# Altium integrated library Xilinx Spartan-6 FPGA.IntLib: 471 symbols (part 3 of 3)
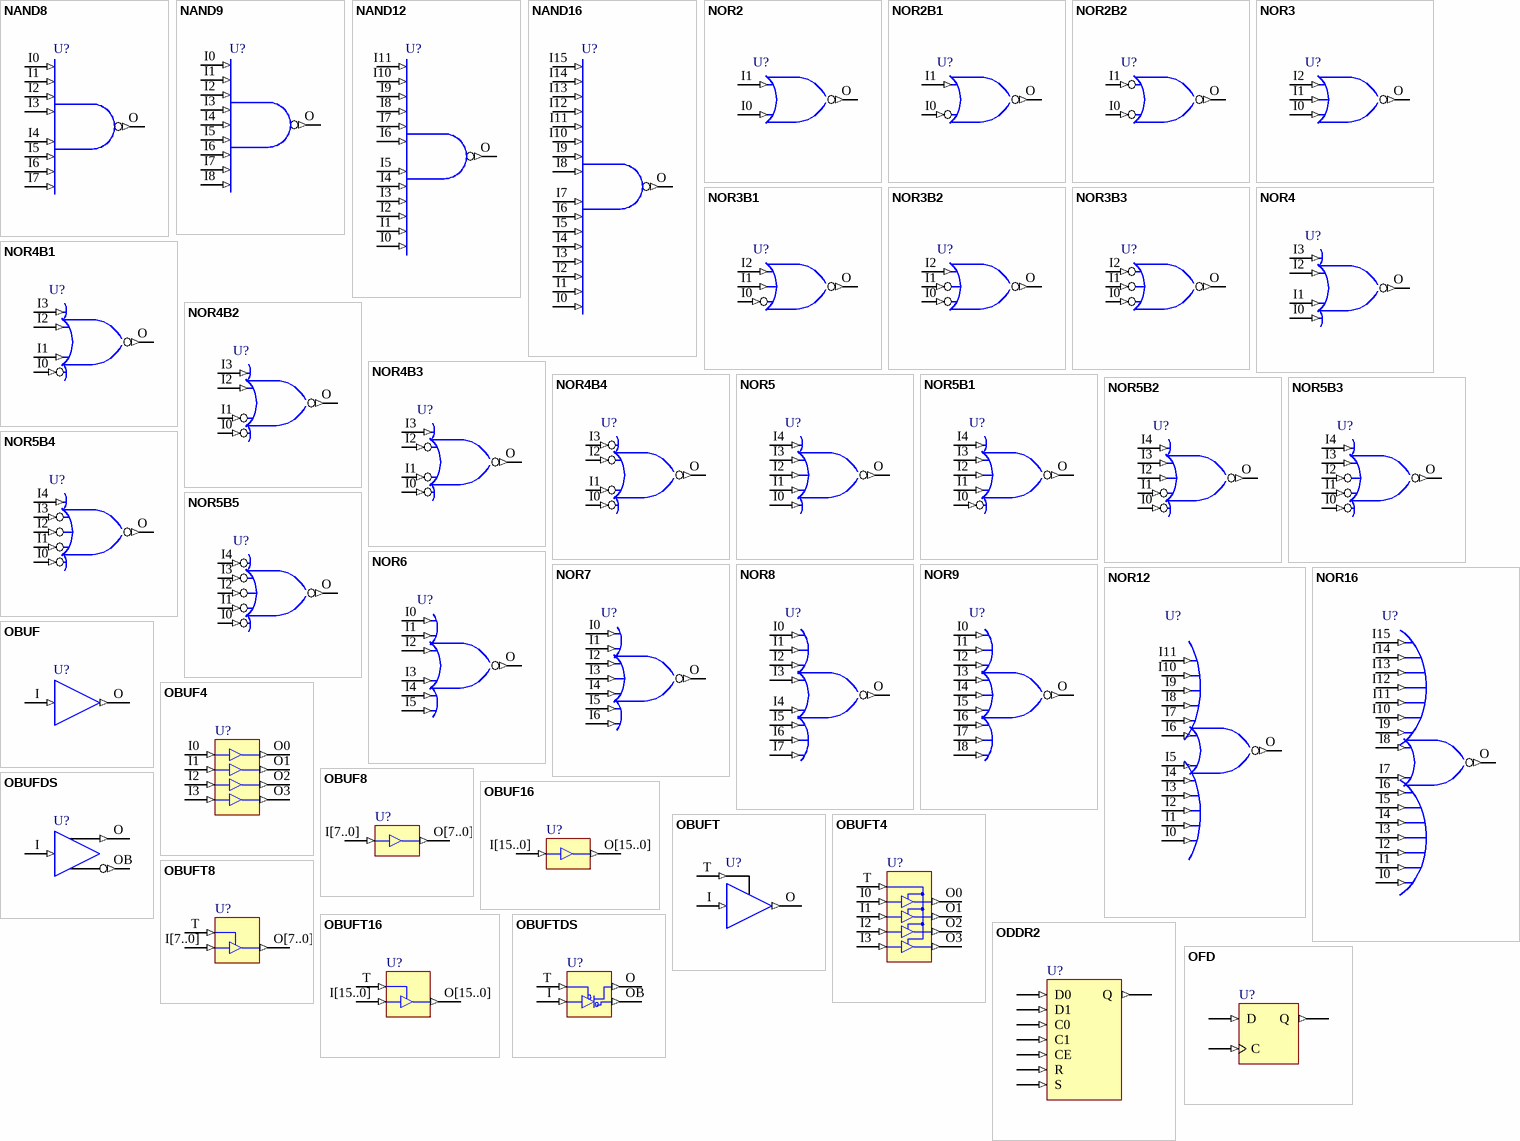
[diagram p14: symbols NAND8 to OFD]

## OBUF4
designator U?
Multiple-Output Buffers (using the LVTTL standard); FPGAVendor: Xilinx; Published: 17-Dec-2009; Publisher: Altium Limited; HelpURL: http://www.xilinx.com/support/documentation/sw_manuals/xilinx11/spartan6_scm.pdf
pins: I0 (in), I1 (in), I2 (in), I3 (in), O0 (out), O1 (out), O2 (out), O3 (out)

## OBUF8
designator U?
Multiple-Output Buffers (using the LVTTL standard); FPGAVendor: Xilinx; Published: 17-Dec-2009; Publisher: Altium Limited; HelpURL: http://www.xilinx.com/support/documentation/sw_manuals/xilinx11/spartan6_scm.pdf
pins: I[7..0] (in), O[7..0] (out)

## OBUF16
designator U?
Multiple-Output Buffers (using the LVTTL standard); FPGAVendor: Xilinx; Published: 17-Dec-2009; Publisher: Altium Limited; HelpURL: http://www.xilinx.com/support/documentation/sw_manuals/xilinx11/spartan6_scm.pdf
pins: I[15..0] (in), O[15..0] (out)

## OBUFDS
designator U?
Differential Signaling Output Buffer; FPGAVendor: Xilinx; Published: 17-Dec-2009; Publisher: Altium Limited; HelpURL: http://www.xilinx.com/support/documentation/sw_manuals/xilinx11/spartan6_scm.pdf
pins: I (in), O (out), OB (out)

## OBUFT
designator U?
Single 3-State Output Buffer with Active-Low Output Enable; FPGAVendor: Xilinx; Published: 17-Dec-2009; Publisher: Altium Limited; HelpURL: http://www.xilinx.com/support/documentation/sw_manuals/xilinx11/spartan6_scm.pdf
pins: I (in), O (out), T (in)

## OBUFT4
designator U?
Multiple 3-State Output Buffers with Active-Low Output Enable; FPGAVendor: Xilinx; Published: 17-Dec-2009; Publisher: Altium Limited; HelpURL: http://www.xilinx.com/support/documentation/sw_manuals/xilinx11/spartan6_scm.pdf
pins: I0 (in), I1 (in), I2 (in), I3 (in), O0 (out), O1 (out), O2 (out), O3 (out), T (in)

## OBUFT8
designator U?
Multiple 3-State Output Buffers with Active-Low Output Enable; FPGAVendor: Xilinx; Published: 17-Dec-2009; Publisher: Altium Limited; HelpURL: http://www.xilinx.com/support/documentation/sw_manuals/xilinx11/spartan6_scm.pdf
pins: I[7..0] (in), O[7..0] (out), T (in)

## OBUFT16
designator U?
Multiple 3-State Output Buffers with Active-Low Output Enable; FPGAVendor: Xilinx; Published: 17-Dec-2009; Publisher: Altium Limited; HelpURL: http://www.xilinx.com/support/documentation/sw_manuals/xilinx11/spartan6_scm.pdf
pins: I[15..0] (in), O[15..0] (out), T (in)

## OBUFTDS
designator U?
3-State Differential Signaling Output Buffer with Active Low Output Enable; FPGAVendor: Xilinx; Published: 17-Dec-2009; Publisher: Altium Limited; HelpURL: http://www.xilinx.com/support/documentation/sw_manuals/xilinx11/spartan6_scm.pdf
pins: I (in), O (out), OB (out), T (in)

## ODDR2
designator U?
Dual Data Rate Output D Flip-Flop with Optional Data Alignment, Clock Enable and Programmable Synchronous or Asynchronous Set/Reset; FPGAVendor: Xilinx; Published: 17-Dec-2009; Publisher: Altium Limited; HelpURL: http://www.xilinx.com/support/documentation/sw_manuals/xilinx11/spartan6_scm.pdf
pins: C0 (in), C1 (in), CE (in), D0 (in), D1 (in), Q (out), R (in), S (in)

## OFD
designator U?
Single-Output D Flip-Flop; FPGAVendor: Xilinx; Published: 17-Dec-2009; Publisher: Altium Limited; HelpURL: http://www.xilinx.com/support/documentation/sw_manuals/xilinx11/spartan6_scm.pdf
pins: C (in), D (in), Q (out)

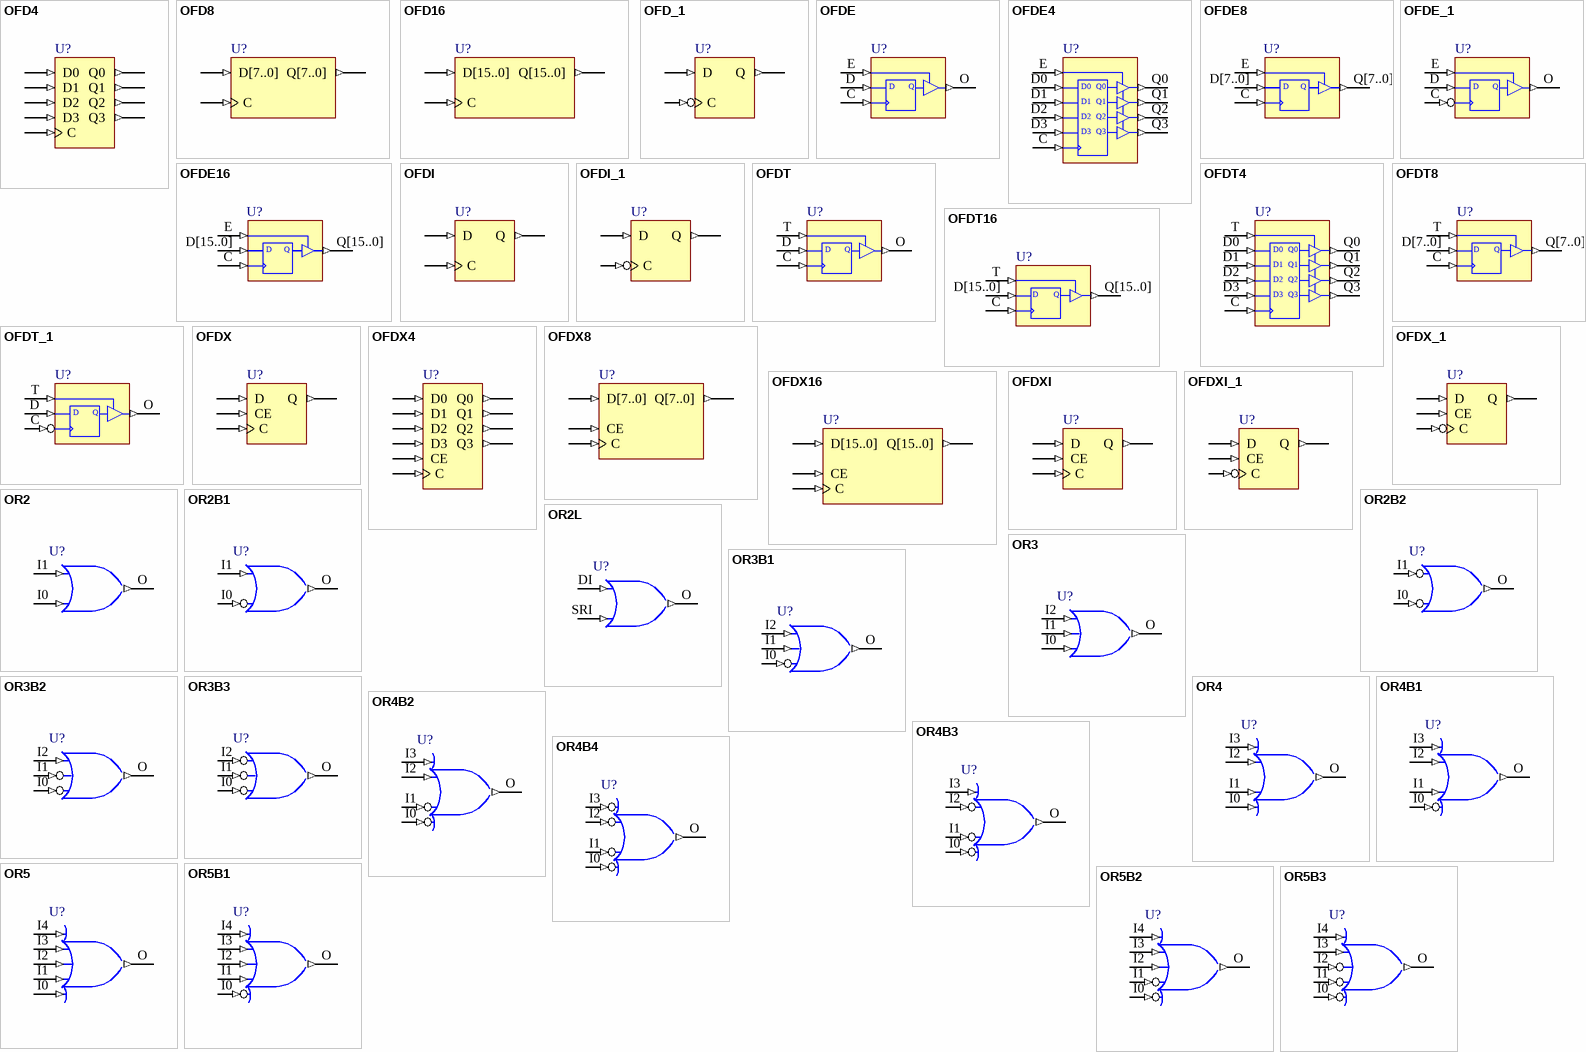
[diagram p9: symbols OFD4 to OR5B3]

## OFD4
designator U?
Multiple-Output D Flip-Flop; FPGAVendor: Xilinx; Published: 17-Dec-2009; Publisher: Altium Limited; HelpURL: http://www.xilinx.com/support/documentation/sw_manuals/xilinx11/spartan6_scm.pdf
pins: C (in), D0 (in), D1 (in), D2 (in), D3 (in), Q0 (out), Q1 (out), Q2 (out), Q3 (out)

## OFD8
designator U?
Multiple-Output D Flip-Flop; FPGAVendor: Xilinx; Published: 17-Dec-2009; Publisher: Altium Limited; HelpURL: http://www.xilinx.com/support/documentation/sw_manuals/xilinx11/spartan6_scm.pdf
pins: C (in), D[7..0] (in), Q[7..0] (out)

## OFD16
designator U?
Multiple-Output D Flip-Flop; FPGAVendor: Xilinx; Published: 17-Dec-2009; Publisher: Altium Limited; HelpURL: http://www.xilinx.com/support/documentation/sw_manuals/xilinx11/spartan6_scm.pdf
pins: C (in), D[15..0] (in), Q[15..0] (out)

## OFD_1
designator U?
Output D Flip-Flop with Inverted Clock; FPGAVendor: Xilinx; Published: 17-Dec-2009; Publisher: Altium Limited; HelpURL: http://www.xilinx.com/support/documentation/sw_manuals/xilinx11/spartan6_scm.pdf
pins: C (in), D (in), Q (out)

## OFDE
designator U?
D Flip-Flop with Active-High Enable Output Buffer; FPGAVendor: Xilinx; Published: 17-Dec-2009; Publisher: Altium Limited; HelpURL: http://www.xilinx.com/support/documentation/sw_manuals/xilinx11/spartan6_scm.pdf
pins: C (in), D (in), E (in), O (out)
text: Q

## OFDE4
designator U?
D Flip-Flops with Active-High Enable Output Buffers; FPGAVendor: Xilinx; Published: 17-Dec-2009; Publisher: Altium Limited; HelpURL: http://www.xilinx.com/support/documentation/sw_manuals/xilinx11/spartan6_scm.pdf
pins: C (in), D0 (in), D1 (in), D2 (in), D3 (in), E (in), Q0 (out), Q1 (out), Q2 (out), Q3 (out)

## OFDE8
designator U?
D Flip-Flops with Active-High Enable Output Buffers; FPGAVendor: Xilinx; Published: 17-Dec-2009; Publisher: Altium Limited; HelpURL: http://www.xilinx.com/support/documentation/sw_manuals/xilinx11/spartan6_scm.pdf
pins: C (in), D[7..0] (in), E (in), Q[7..0] (out)
text: D; Q

## OFDE16
designator U?
D Flip-Flops with Active-High Enable Output Buffers; FPGAVendor: Xilinx; Published: 17-Dec-2009; Publisher: Altium Limited; HelpURL: http://www.xilinx.com/support/documentation/sw_manuals/xilinx11/spartan6_scm.pdf
pins: C (in), D[15..0] (in), E (in), Q[15..0] (out)
text: D; Q

## OFDE_1
designator U?
D Flip-Flop with Active-High Enable Output Buffer and Inverted Clock; FPGAVendor: Xilinx; Published: 17-Dec-2009; Publisher: Altium Limited; HelpURL: http://www.xilinx.com/support/documentation/sw_manuals/xilinx11/spartan6_scm.pdf
pins: C (in), D (in), E (in), O (out)
text: Q

## OFDI
designator U?
Output D Flip-Flop (Asynchronous Preset); FPGAVendor: Xilinx; Published: 17-Dec-2009; Publisher: Altium Limited; HelpURL: http://www.xilinx.com/support/documentation/sw_manuals/xilinx11/spartan6_scm.pdf
pins: C (in), D (in), Q (out)

## OFDI_1
designator U?
Output D Flip-Flop with Inverted Clock (Asynchronous Preset); FPGAVendor: Xilinx; Published: 17-Dec-2009; Publisher: Altium Limited; HelpURL: http://www.xilinx.com/support/documentation/sw_manuals/xilinx11/spartan6_scm.pdf
pins: C (in), D (in), Q (out)

## OFDT
designator U?
Single D Flip-Flop with Active-Low 3-State Output Enable Buffer; FPGAVendor: Xilinx; Published: 17-Dec-2009; Publisher: Altium Limited; HelpURL: http://www.xilinx.com/support/documentation/sw_manuals/xilinx11/spartan6_scm.pdf
pins: C (in), D (in), O (out), T (in)
text: Q

## OFDT4
designator U?
Multiple D Flip-Flops with Active-Low 3-State Output Enable Buffers; FPGAVendor: Xilinx; Published: 17-Dec-2009; Publisher: Altium Limited; HelpURL: http://www.xilinx.com/support/documentation/sw_manuals/xilinx11/spartan6_scm.pdf
pins: C (in), D0 (in), D1 (in), D2 (in), D3 (in), Q0 (out), Q1 (out), Q2 (out), Q3 (out), T (in)

## OFDT8
designator U?
Multiple D Flip-Flops with Active-Low 3-State Output Enable Buffers; FPGAVendor: Xilinx; Published: 17-Dec-2009; Publisher: Altium Limited; HelpURL: http://www.xilinx.com/support/documentation/sw_manuals/xilinx11/spartan6_scm.pdf
pins: C (in), D[7..0] (in), Q[7..0] (out), T (in)
text: D; Q

## OFDT16
designator U?
Multiple D Flip-Flops with Active-Low 3-State Output Enable Buffers; FPGAVendor: Xilinx; Published: 17-Dec-2009; Publisher: Altium Limited; HelpURL: http://www.xilinx.com/support/documentation/sw_manuals/xilinx11/spartan6_scm.pdf
pins: C (in), D[15..0] (in), Q[15..0] (out), T (in)
text: D; Q

## OFDT_1
designator U?
D Flip-Flop with Active-Low 3-State Output Buffer and Inverted Clock; FPGAVendor: Xilinx; Published: 17-Dec-2009; Publisher: Altium Limited; HelpURL: http://www.xilinx.com/support/documentation/sw_manuals/xilinx11/spartan6_scm.pdf
pins: C (in), D (in), O (out), T (in)
text: Q

## OFDX
designator U?
Single-Output D Flip-Flop with Clock Enable; FPGAVendor: Xilinx; Published: 17-Dec-2009; Publisher: Altium Limited; HelpURL: http://www.xilinx.com/support/documentation/sw_manuals/xilinx11/spartan6_scm.pdf
pins: C (in), CE (in), D (in), Q (out)

## OFDX4
designator U?
Multiple-Output D Flip-Flops with Clock Enable; FPGAVendor: Xilinx; Published: 17-Dec-2009; Publisher: Altium Limited; HelpURL: http://www.xilinx.com/support/documentation/sw_manuals/xilinx11/spartan6_scm.pdf
pins: C (in), CE (in), D0 (in), D1 (in), D2 (in), D3 (in), Q0 (out), Q1 (out), Q2 (out), Q3 (out)

## OFDX8
designator U?
Multiple-Output D Flip-Flops with Clock Enable; FPGAVendor: Xilinx; Published: 17-Dec-2009; Publisher: Altium Limited; HelpURL: http://www.xilinx.com/support/documentation/sw_manuals/xilinx11/spartan6_scm.pdf
pins: C (in), CE (in), D[7..0] (in), Q[7..0] (out)

## OFDX16
designator U?
Multiple-Output D Flip-Flops with Clock Enable; FPGAVendor: Xilinx; Published: 17-Dec-2009; Publisher: Altium Limited; HelpURL: http://www.xilinx.com/support/documentation/sw_manuals/xilinx11/spartan6_scm.pdf
pins: C (in), CE (in), D[15..0] (in), Q[15..0] (out)

## OFDX_1
designator U?
Output D Flip-Flop with Inverted Clock and Clock Enable; FPGAVendor: Xilinx; Published: 17-Dec-2009; Publisher: Altium Limited; HelpURL: http://www.xilinx.com/support/documentation/sw_manuals/xilinx11/spartan6_scm.pdf
pins: C (in), CE (in), D (in), Q (out)

## OFDXI
designator U?
Output D Flip-Flop with Clock Enable (Asynchronous Preset); FPGAVendor: Xilinx; Published: 17-Dec-2009; Publisher: Altium Limited; HelpURL: http://www.xilinx.com/support/documentation/sw_manuals/xilinx11/spartan6_scm.pdf
pins: C (in), CE (in), D (in), Q (out)

## OFDXI_1
designator U?
Output D Flip-Flop with Inverted Clock and Clock Enable (Asynchronous Preset); FPGAVendor: Xilinx; Published: 17-Dec-2009; Publisher: Altium Limited; HelpURL: http://www.xilinx.com/support/documentation/sw_manuals/xilinx11/spartan6_scm.pdf
pins: C (in), CE (in), D (in), Q (out)

## OR2
designator U?
2-Input OR Gate; FPGAVendor: Xilinx; Published: 17-Dec-2009; Publisher: Altium Limited; HelpURL: http://www.xilinx.com/support/documentation/sw_manuals/xilinx11/spartan6_scm.pdf
pins: I0 (in), I1 (in), O (out)

## OR2B1
designator U?
2-Input OR Gate with One Inverted Input; FPGAVendor: Xilinx; Published: 17-Dec-2009; Publisher: Altium Limited; HelpURL: http://www.xilinx.com/support/documentation/sw_manuals/xilinx11/spartan6_scm.pdf
pins: I0 (in), I1 (in), O (out)

## OR2B2
designator U?
2-Input OR Gate with Two Inverted Inputs; FPGAVendor: Xilinx; Published: 17-Dec-2009; Publisher: Altium Limited; HelpURL: http://www.xilinx.com/support/documentation/sw_manuals/xilinx11/spartan6_scm.pdf
pins: I0 (in), I1 (in), O (out)

## OR2L
designator U?
Two input OR gate implemented in place of a Slice Latch; FPGAVendor: Xilinx; Published: 17-Dec-2009; Publisher: Altium Limited; HelpURL: http://www.xilinx.com/support/documentation/sw_manuals/xilinx11/spartan6_scm.pdf
pins: DI (in), O (out), SRI (in)

## OR3
designator U?
3-Input OR Gate; FPGAVendor: Xilinx; Published: 17-Dec-2009; Publisher: Altium Limited; HelpURL: http://www.xilinx.com/support/documentation/sw_manuals/xilinx11/spartan6_scm.pdf
pins: I0 (in), I1 (in), I2 (in), O (out)

## OR3B1
designator U?
3-Input OR Gate with One Inverted Input; FPGAVendor: Xilinx; Published: 17-Dec-2009; Publisher: Altium Limited; HelpURL: http://www.xilinx.com/support/documentation/sw_manuals/xilinx11/spartan6_scm.pdf
pins: I0 (in), I1 (in), I2 (in), O (out)

## OR3B2
designator U?
3-Input OR Gate with Two Inverted Inputs; FPGAVendor: Xilinx; Published: 17-Dec-2009; Publisher: Altium Limited; HelpURL: http://www.xilinx.com/support/documentation/sw_manuals/xilinx11/spartan6_scm.pdf
pins: I0 (in), I1 (in), I2 (in), O (out)

## OR3B3
designator U?
3-Input OR Gate with Three Inverted Inputs; FPGAVendor: Xilinx; Published: 17-Dec-2009; Publisher: Altium Limited; HelpURL: http://www.xilinx.com/support/documentation/sw_manuals/xilinx11/spartan6_scm.pdf
pins: I0 (in), I1 (in), I2 (in), O (out)

## OR4
designator U?
4-Input OR Gate; FPGAVendor: Xilinx; Published: 17-Dec-2009; Publisher: Altium Limited; HelpURL: http://www.xilinx.com/support/documentation/sw_manuals/xilinx11/spartan6_scm.pdf
pins: I0 (in), I1 (in), I2 (in), I3 (in), O (out)

## OR4B1
designator U?
4-Input OR Gate with One Inverted Input; FPGAVendor: Xilinx; Published: 17-Dec-2009; Publisher: Altium Limited; HelpURL: http://www.xilinx.com/support/documentation/sw_manuals/xilinx11/spartan6_scm.pdf
pins: I0 (in), I1 (in), I2 (in), I3 (in), O (out)

## OR4B2
designator U?
4-Input OR Gate with Two Inverted Inputs; FPGAVendor: Xilinx; Published: 17-Dec-2009; Publisher: Altium Limited; HelpURL: http://www.xilinx.com/support/documentation/sw_manuals/xilinx11/spartan6_scm.pdf
pins: I0 (in), I1 (in), I2 (in), I3 (in), O (out)

## OR4B3
designator U?
4-Input OR Gate with Three Inverted Inputs; FPGAVendor: Xilinx; Published: 17-Dec-2009; Publisher: Altium Limited; HelpURL: http://www.xilinx.com/support/documentation/sw_manuals/xilinx11/spartan6_scm.pdf
pins: I0 (in), I1 (in), I2 (in), I3 (in), O (out)

## OR4B4
designator U?
4-Input OR Gate with Four Inverted Inputs; FPGAVendor: Xilinx; Published: 17-Dec-2009; Publisher: Altium Limited; HelpURL: http://www.xilinx.com/support/documentation/sw_manuals/xilinx11/spartan6_scm.pdf
pins: I0 (in), I1 (in), I2 (in), I3 (in), O (out)

## OR5
designator U?
5-Input OR Gate; FPGAVendor: Xilinx; Published: 17-Dec-2009; Publisher: Altium Limited; HelpURL: http://www.xilinx.com/support/documentation/sw_manuals/xilinx11/spartan6_scm.pdf
pins: I0 (in), I1 (in), I2 (in), I3 (in), I4 (in), O (out)

## OR5B1
designator U?
5-Input OR Gate with One Inverted Input; FPGAVendor: Xilinx; Published: 17-Dec-2009; Publisher: Altium Limited; HelpURL: http://www.xilinx.com/support/documentation/sw_manuals/xilinx11/spartan6_scm.pdf
pins: I0 (in), I1 (in), I2 (in), I3 (in), I4 (in), O (out)

## OR5B2
designator U?
5-Input OR Gate with Two Inverted Inputs; FPGAVendor: Xilinx; Published: 17-Dec-2009; Publisher: Altium Limited; HelpURL: http://www.xilinx.com/support/documentation/sw_manuals/xilinx11/spartan6_scm.pdf
pins: I0 (in), I1 (in), I2 (in), I3 (in), I4 (in), O (out)

## OR5B3
designator U?
5-Input OR Gate with Three Inverted Inputs; FPGAVendor: Xilinx; Published: 17-Dec-2009; Publisher: Altium Limited; HelpURL: http://www.xilinx.com/support/documentation/sw_manuals/xilinx11/spartan6_scm.pdf
pins: I0 (in), I1 (in), I2 (in), I3 (in), I4 (in), O (out)

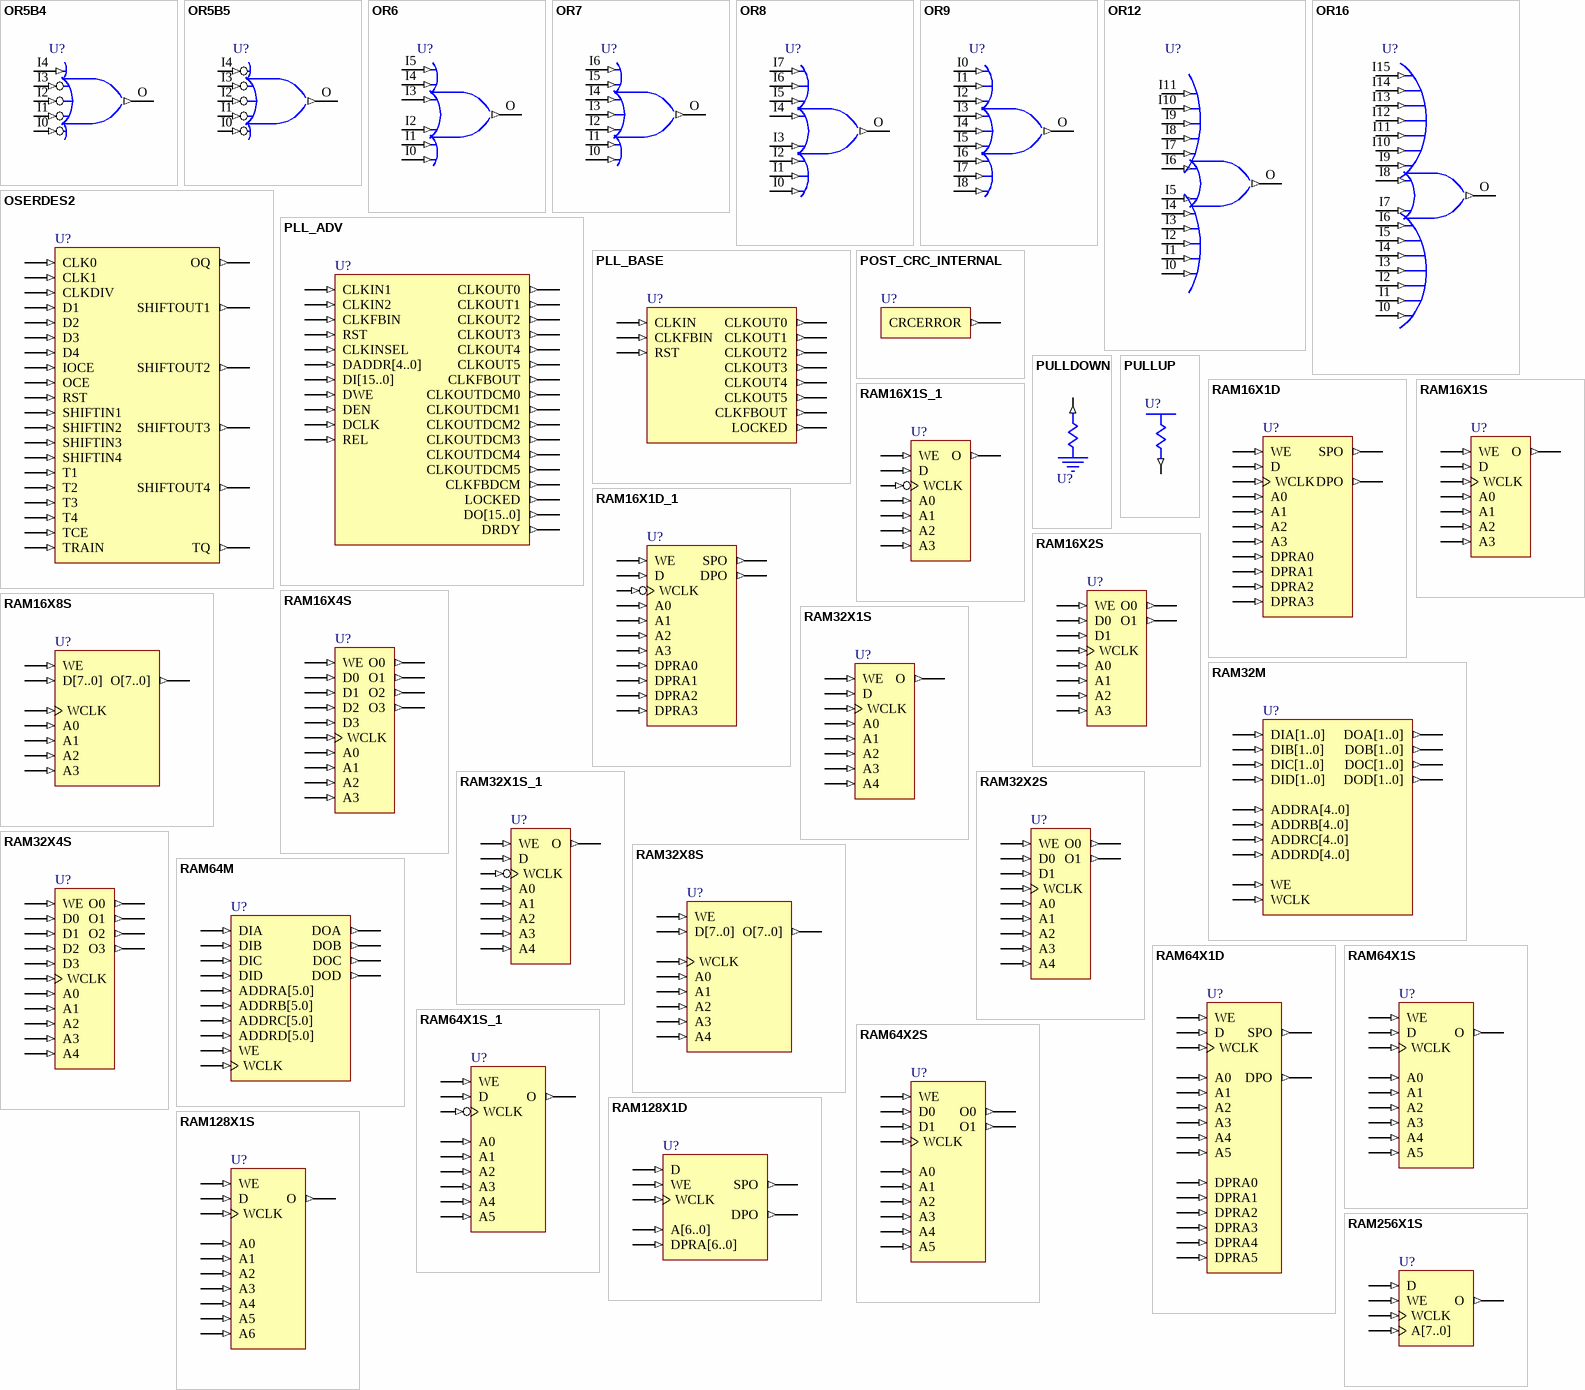
[diagram p10: symbols OR5B4 to RAM256X1S]

## OR5B4
designator U?
5-Input OR Gate with Four Inverted Inputs; FPGAVendor: Xilinx; Published: 17-Dec-2009; Publisher: Altium Limited; HelpURL: http://www.xilinx.com/support/documentation/sw_manuals/xilinx11/spartan6_scm.pdf
pins: I0 (in), I1 (in), I2 (in), I3 (in), I4 (in), O (out)

## OR5B5
designator U?
5-Input OR Gate with Five Inverted Inputs; FPGAVendor: Xilinx; Published: 17-Dec-2009; Publisher: Altium Limited; HelpURL: http://www.xilinx.com/support/documentation/sw_manuals/xilinx11/spartan6_scm.pdf
pins: I0 (in), I1 (in), I2 (in), I3 (in), I4 (in), O (out)

## OR6
designator U?
6-Input OR Gate; FPGAVendor: Xilinx; Published: 17-Dec-2009; Publisher: Altium Limited; HelpURL: http://www.xilinx.com/support/documentation/sw_manuals/xilinx11/spartan6_scm.pdf
pins: I0 (in), I1 (in), I2 (in), I3 (in), I4 (in), I5 (in), O (out)

## OR7
designator U?
7-Input OR Gate; FPGAVendor: Xilinx; Published: 17-Dec-2009; Publisher: Altium Limited; HelpURL: http://www.xilinx.com/support/documentation/sw_manuals/xilinx11/spartan6_scm.pdf
pins: I0 (in), I1 (in), I2 (in), I3 (in), I4 (in), I5 (in), I6 (in), O (out)

## OR8
designator U?
8-Input OR Gate; FPGAVendor: Xilinx; Published: 17-Dec-2009; Publisher: Altium Limited; HelpURL: http://www.xilinx.com/support/documentation/sw_manuals/xilinx11/spartan6_scm.pdf
pins: I0 (in), I1 (in), I2 (in), I3 (in), I4 (in), I5 (in), I6 (in), I7 (in), O (out)

## OR9
designator U?
9-Input OR Gate; FPGAVendor: Xilinx; Published: 17-Dec-2009; Publisher: Altium Limited; HelpURL: http://www.xilinx.com/support/documentation/sw_manuals/xilinx11/spartan6_scm.pdf
pins: I0 (in), I1 (in), I2 (in), I3 (in), I4 (in), I5 (in), I6 (in), I7 (in), I8 (in), O (out)

## OR12
designator U?
12-Input OR Gate; FPGAVendor: Xilinx; Published: 17-Dec-2009; Publisher: Altium Limited; HelpURL: http://www.xilinx.com/support/documentation/sw_manuals/xilinx11/spartan6_scm.pdf
pins: I0 (in), I1 (in), I2 (in), I3 (in), I4 (in), I5 (in), I6 (in), I7 (in), I8 (in), I9 (in), I10 (in), I11 (in), O (out)

## OR16
designator U?
16-Input OR Gate; FPGAVendor: Xilinx; Published: 17-Dec-2009; Publisher: Altium Limited; HelpURL: http://www.xilinx.com/support/documentation/sw_manuals/xilinx11/spartan6_scm.pdf
pins: I0 (in), I1 (in), I2 (in), I3 (in), I4 (in), I5 (in), I6 (in), I7 (in), I8 (in), I9 (in), I10 (in), I11 (in), I12 (in), I13 (in), I14 (in), I15 (in), O (out)

## OSERDES2
designator U?
Dedicated IOB Output Serializer; FPGAVendor: Xilinx; Published: 17-Dec-2009; Publisher: Altium Limited; HelpURL: http://www.xilinx.com/support/documentation/sw_manuals/xilinx11/spartan6_scm.pdf
pins: CLK0 (in), CLK1 (in), CLKDIV (in), D1 (in), D2 (in), D3 (in), D4 (in), IOCE (in), OCE (in), OQ (out), RST (in), SHIFTIN1 (in), SHIFTIN2 (in), SHIFTIN3 (in), SHIFTIN4 (in), SHIFTOUT1 (out), SHIFTOUT2 (out), SHIFTOUT3 (out), SHIFTOUT4 (out), T1 (in), T2 (in), T3 (in), T4 (in), TCE (in), TQ (out), TRAIN (in)

## PLL_ADV
designator U?
Advanced Phase Locked Loop Clock Circuit; FPGAVendor: Xilinx; Published: 17-Dec-2009; Publisher: Altium Limited; HelpURL: http://www.xilinx.com/support/documentation/sw_manuals/xilinx11/spartan6_scm.pdf
pins: CLKFBDCM (out), CLKFBIN (in), CLKFBOUT (out), CLKIN1 (in), CLKIN2 (in), CLKINSEL (in), CLKOUT0 (out), CLKOUT1 (out), CLKOUT2 (out), CLKOUT3 (out), CLKOUT4 (out), CLKOUT5 (out), CLKOUTDCM0 (out), CLKOUTDCM1 (out), CLKOUTDCM2 (out), CLKOUTDCM3 (out), CLKOUTDCM4 (out), CLKOUTDCM5 (out), DADDR[4..0] (in), DCLK (in), DEN (in), DI[15..0] (in), DO[15..0] (out), DRDY (out), DWE (in), LOCKED (out), REL (in), RST (in)

## PLL_BASE
designator U?
Basic Phase Locked Loop Clock Circuit; FPGAVendor: Xilinx; Published: 17-Dec-2009; Publisher: Altium Limited; HelpURL: http://www.xilinx.com/support/documentation/sw_manuals/xilinx11/spartan6_scm.pdf
pins: CLKFBIN (in), CLKFBOUT (out), CLKIN (in), CLKOUT0 (out), CLKOUT1 (out), CLKOUT2 (out), CLKOUT3 (out), CLKOUT4 (out), CLKOUT5 (out), LOCKED (out), RST (in)

## POST_CRC_INTERNAL
designator U?
Post-configuration CRC error detection; FPGAVendor: Xilinx; Published: 17-Dec-2009; Publisher: Altium Limited; HelpURL: http://www.xilinx.com/support/documentation/sw_manuals/xilinx11/spartan6_scm.pdf
pins: CRCERROR (out)

## PULLDOWN
designator U?
Resistor to GND for Input Pads; FPGAVendor: Xilinx; Published: 17-Dec-2009; Publisher: Altium Limited; HelpURL: http://www.xilinx.com/support/documentation/sw_manuals/xilinx11/spartan6_scm.pdf
pins: O (out)

## PULLUP
designator U?
Resistor to VCC for Input PADs, Open-Drain, and 3-State Outputs; FPGAVendor: Xilinx; Published: 17-Dec-2009; Publisher: Altium Limited; HelpURL: http://www.xilinx.com/support/documentation/sw_manuals/xilinx11/spartan6_scm.pdf
pins: O (out)

## RAM16X1D
designator U?
16-Deep by 1-Wide Static Dual Port Synchronous RAM; FPGAVendor: Xilinx; Published: 17-Dec-2009; Publisher: Altium Limited; HelpURL: http://www.xilinx.com/support/documentation/sw_manuals/xilinx11/spartan6_scm.pdf
pins: A0 (in), A1 (in), A2 (in), A3 (in), D (in), DPO (out), DPRA0 (in), DPRA1 (in), DPRA2 (in), DPRA3 (in), SPO (out), WCLK (in), WE (in)

## RAM16X1D_1
designator U?
16-Deep by 1-Wide Static Dual Port Synchronous RAM with Negative-Edge Clock; FPGAVendor: Xilinx; Published: 17-Dec-2009; Publisher: Altium Limited; HelpURL: http://www.xilinx.com/support/documentation/sw_manuals/xilinx11/spartan6_scm.pdf
pins: A0 (in), A1 (in), A2 (in), A3 (in), D (in), DPO (out), DPRA0 (in), DPRA1 (in), DPRA2 (in), DPRA3 (in), SPO (out), WCLK (in), WE (in)

## RAM16X1S
designator U?
16-Deep by 1-Wide Static Synchronous RAM; FPGAVendor: Xilinx; Published: 17-Dec-2009; Publisher: Altium Limited; HelpURL: http://www.xilinx.com/support/documentation/sw_manuals/xilinx11/spartan6_scm.pdf
pins: A0 (in), A1 (in), A2 (in), A3 (in), D (in), O (out), WCLK (in), WE (in)

## RAM16X1S_1
designator U?
16-Deep by 1-Wide Static Synchronous RAM with Negative-Edge Clock; FPGAVendor: Xilinx; Published: 17-Dec-2009; Publisher: Altium Limited; HelpURL: http://www.xilinx.com/support/documentation/sw_manuals/xilinx11/spartan6_scm.pdf
pins: A0 (in), A1 (in), A2 (in), A3 (in), D (in), O (out), WCLK (in), WE (in)

## RAM16X2S
designator U?
16-Deep by 2-Wide Static Synchronous RAM; FPGAVendor: Xilinx; Published: 17-Dec-2009; Publisher: Altium Limited; HelpURL: http://www.xilinx.com/support/documentation/sw_manuals/xilinx11/spartan6_scm.pdf
pins: A0 (in), A1 (in), A2 (in), A3 (in), D0 (in), D1 (in), O0 (out), O1 (out), WCLK (in), WE (in)

## RAM16X4S
designator U?
16-Deep by 4-Wide Static Synchronous RAM; FPGAVendor: Xilinx; Published: 17-Dec-2009; Publisher: Altium Limited; HelpURL: http://www.xilinx.com/support/documentation/sw_manuals/xilinx11/spartan6_scm.pdf
pins: A0 (in), A1 (in), A2 (in), A3 (in), D0 (in), D1 (in), D2 (in), D3 (in), O0 (out), O1 (out), O2 (out), O3 (out), WCLK (in), WE (in)

## RAM16X8S
designator U?
16-Deep by 8-Wide Static Synchronous RAM; FPGAVendor: Xilinx; Published: 17-Dec-2009; Publisher: Altium Limited; HelpURL: http://www.xilinx.com/support/documentation/sw_manuals/xilinx11/spartan6_scm.pdf
pins: A0 (in), A1 (in), A2 (in), A3 (in), D[7..0] (in), O[7..0] (out), WCLK (in), WE (in)

## RAM32M
designator U?
32-Deep by 8-bit Wide Multi Port Random Access Memory (Select RAM); FPGAVendor: Xilinx; Published: 17-Dec-2009; Publisher: Altium Limited; HelpURL: http://www.xilinx.com/support/documentation/sw_manuals/xilinx11/spartan6_scm.pdf
pins: ADDRA[4..0] (in), ADDRB[4..0] (in), ADDRC[4..0] (in), ADDRD[4..0] (in), DIA[1..0] (in), DIB[1..0] (in), DIC[1..0] (in), DID[1..0] (in), DOA[1..0] (out), DOB[1..0] (out), DOC[1..0] (out), DOD[1..0] (out), WCLK (in), WE (in)

## RAM32X1S
designator U?
32-Deep by 1-Wide Static Synchronous RAM; FPGAVendor: Xilinx; Published: 17-Dec-2009; Publisher: Altium Limited; HelpURL: http://www.xilinx.com/support/documentation/sw_manuals/xilinx11/spartan6_scm.pdf
pins: A0 (in), A1 (in), A2 (in), A3 (in), A4 (in), D (in), O (out), WCLK (in), WE (in)

## RAM32X1S_1
designator U?
32-Deep by 1-Wide Static Synchronous RAM with Negative-Edge Clock; FPGAVendor: Xilinx; Published: 17-Dec-2009; Publisher: Altium Limited; HelpURL: http://www.xilinx.com/support/documentation/sw_manuals/xilinx11/spartan6_scm.pdf
pins: A0 (in), A1 (in), A2 (in), A3 (in), A4 (in), D (in), O (out), WCLK (in), WE (in)

## RAM32X2S
designator U?
32-Deep by 2-Wide Static Synchronous RAM; FPGAVendor: Xilinx; Published: 17-Dec-2009; Publisher: Altium Limited; HelpURL: http://www.xilinx.com/support/documentation/sw_manuals/xilinx11/spartan6_scm.pdf
pins: A0 (in), A1 (in), A2 (in), A3 (in), A4 (in), D0 (in), D1 (in), O0 (out), O1 (out), WCLK (in), WE (in)

## RAM32X4S
designator U?
32-Deep by 4-Wide Static Synchronous RAM; FPGAVendor: Xilinx; Published: 17-Dec-2009; Publisher: Altium Limited; HelpURL: http://www.xilinx.com/support/documentation/sw_manuals/xilinx11/spartan6_scm.pdf
pins: A0 (in), A1 (in), A2 (in), A3 (in), A4 (in), D0 (in), D1 (in), D2 (in), D3 (in), O0 (out), O1 (out), O2 (out), O3 (out), WCLK (in), WE (in)

## RAM32X8S
designator U?
32-Deep by 8-Wide Static Synchronous RAM; FPGAVendor: Xilinx; Published: 17-Dec-2009; Publisher: Altium Limited; HelpURL: http://www.xilinx.com/support/documentation/sw_manuals/xilinx11/spartan6_scm.pdf
pins: A0 (in), A1 (in), A2 (in), A3 (in), A4 (in), D[7..0] (in), O[7..0] (out), WCLK (in), WE (in)

## RAM64M
designator U?
64-Deep by 4-bit Wide Multi Port Random Access Memory (Select RAM); FPGAVendor: Xilinx; Published: 17-Dec-2009; Publisher: Altium Limited; HelpURL: http://www.xilinx.com/support/documentation/sw_manuals/xilinx11/spartan6_scm.pdf
pins: ADDRA[5.0] (in), ADDRB[5.0] (in), ADDRC[5.0] (in), ADDRD[5.0] (in), DIA (in), DIB (in), DIC (in), DID (in), DOA (out), DOB (out), DOC (out), DOD (out), WCLK (in), WE (in)

## RAM64X1D
designator U?
64-Deep by 1-Wide Dual Port Static Synchronous RAM; FPGAVendor: Xilinx; Published: 17-Dec-2009; Publisher: Altium Limited; HelpURL: http://www.xilinx.com/support/documentation/sw_manuals/xilinx11/spartan6_scm.pdf
pins: A0 (in), A1 (in), A2 (in), A3 (in), A4 (in), A5 (in), D (in), DPO (out), DPRA0 (in), DPRA1 (in), DPRA2 (in), DPRA3 (in), DPRA4 (in), DPRA5 (in), SPO (out), WCLK (in), WE (in)

## RAM64X1S
designator U?
64-Deep by 1-Wide Static Synchronous RAM; FPGAVendor: Xilinx; Published: 17-Dec-2009; Publisher: Altium Limited; HelpURL: http://www.xilinx.com/support/documentation/sw_manuals/xilinx11/spartan6_scm.pdf
pins: A0 (in), A1 (in), A2 (in), A3 (in), A4 (in), A5 (in), D (in), O (out), WCLK (in), WE (in)

## RAM64X1S_1
designator U?
64-Deep by 1-Wide Static Synchronous RAM with Negative-Edge Clock; FPGAVendor: Xilinx; Published: 17-Dec-2009; Publisher: Altium Limited; HelpURL: http://www.xilinx.com/support/documentation/sw_manuals/xilinx11/spartan6_scm.pdf
pins: A0 (in), A1 (in), A2 (in), A3 (in), A4 (in), A5 (in), D (in), O (out), WCLK (in), WE (in)

## RAM64X2S
designator U?
64-Deep by 2-Wide Static Synchronous RAM; FPGAVendor: Xilinx; Published: 17-Dec-2009; Publisher: Altium Limited; HelpURL: http://www.xilinx.com/support/documentation/sw_manuals/xilinx11/spartan6_scm.pdf
pins: A0 (in), A1 (in), A2 (in), A3 (in), A4 (in), A5 (in), D0 (in), D1 (in), O0 (out), O1 (out), WCLK (in), WE (in)

## RAM128X1D
designator U?
128-Deep by 1-Wide Dual Port Random Access Memory (Select RAM); FPGAVendor: Xilinx; Published: 17-Dec-2009; Publisher: Altium Limited; HelpURL: http://www.xilinx.com/support/documentation/sw_manuals/xilinx11/spartan6_scm.pdf
pins: A[6..0] (in), D (in), DPO (out), DPRA[6..0] (in), SPO (out), WCLK (in), WE (in)

## RAM128X1S
designator U?
128-Deep by 1-Wide Static Synchronous RAM; FPGAVendor: Xilinx; Published: 17-Dec-2009; Publisher: Altium Limited; HelpURL: http://www.xilinx.com/support/documentation/sw_manuals/xilinx11/spartan6_scm.pdf
pins: A0 (in), A1 (in), A2 (in), A3 (in), A4 (in), A5 (in), A6 (in), D (in), O (out), WCLK (in), WE (in)

## RAM256X1S
designator U?
256-Deep by 1-Wide Random Access Memory (Select RAM); FPGAVendor: Xilinx; Published: 17-Dec-2009; Publisher: Altium Limited; HelpURL: http://www.xilinx.com/support/documentation/sw_manuals/xilinx11/spartan6_scm.pdf
pins: A[7..0] (in), D (in), O (out), WCLK (in), WE (in)

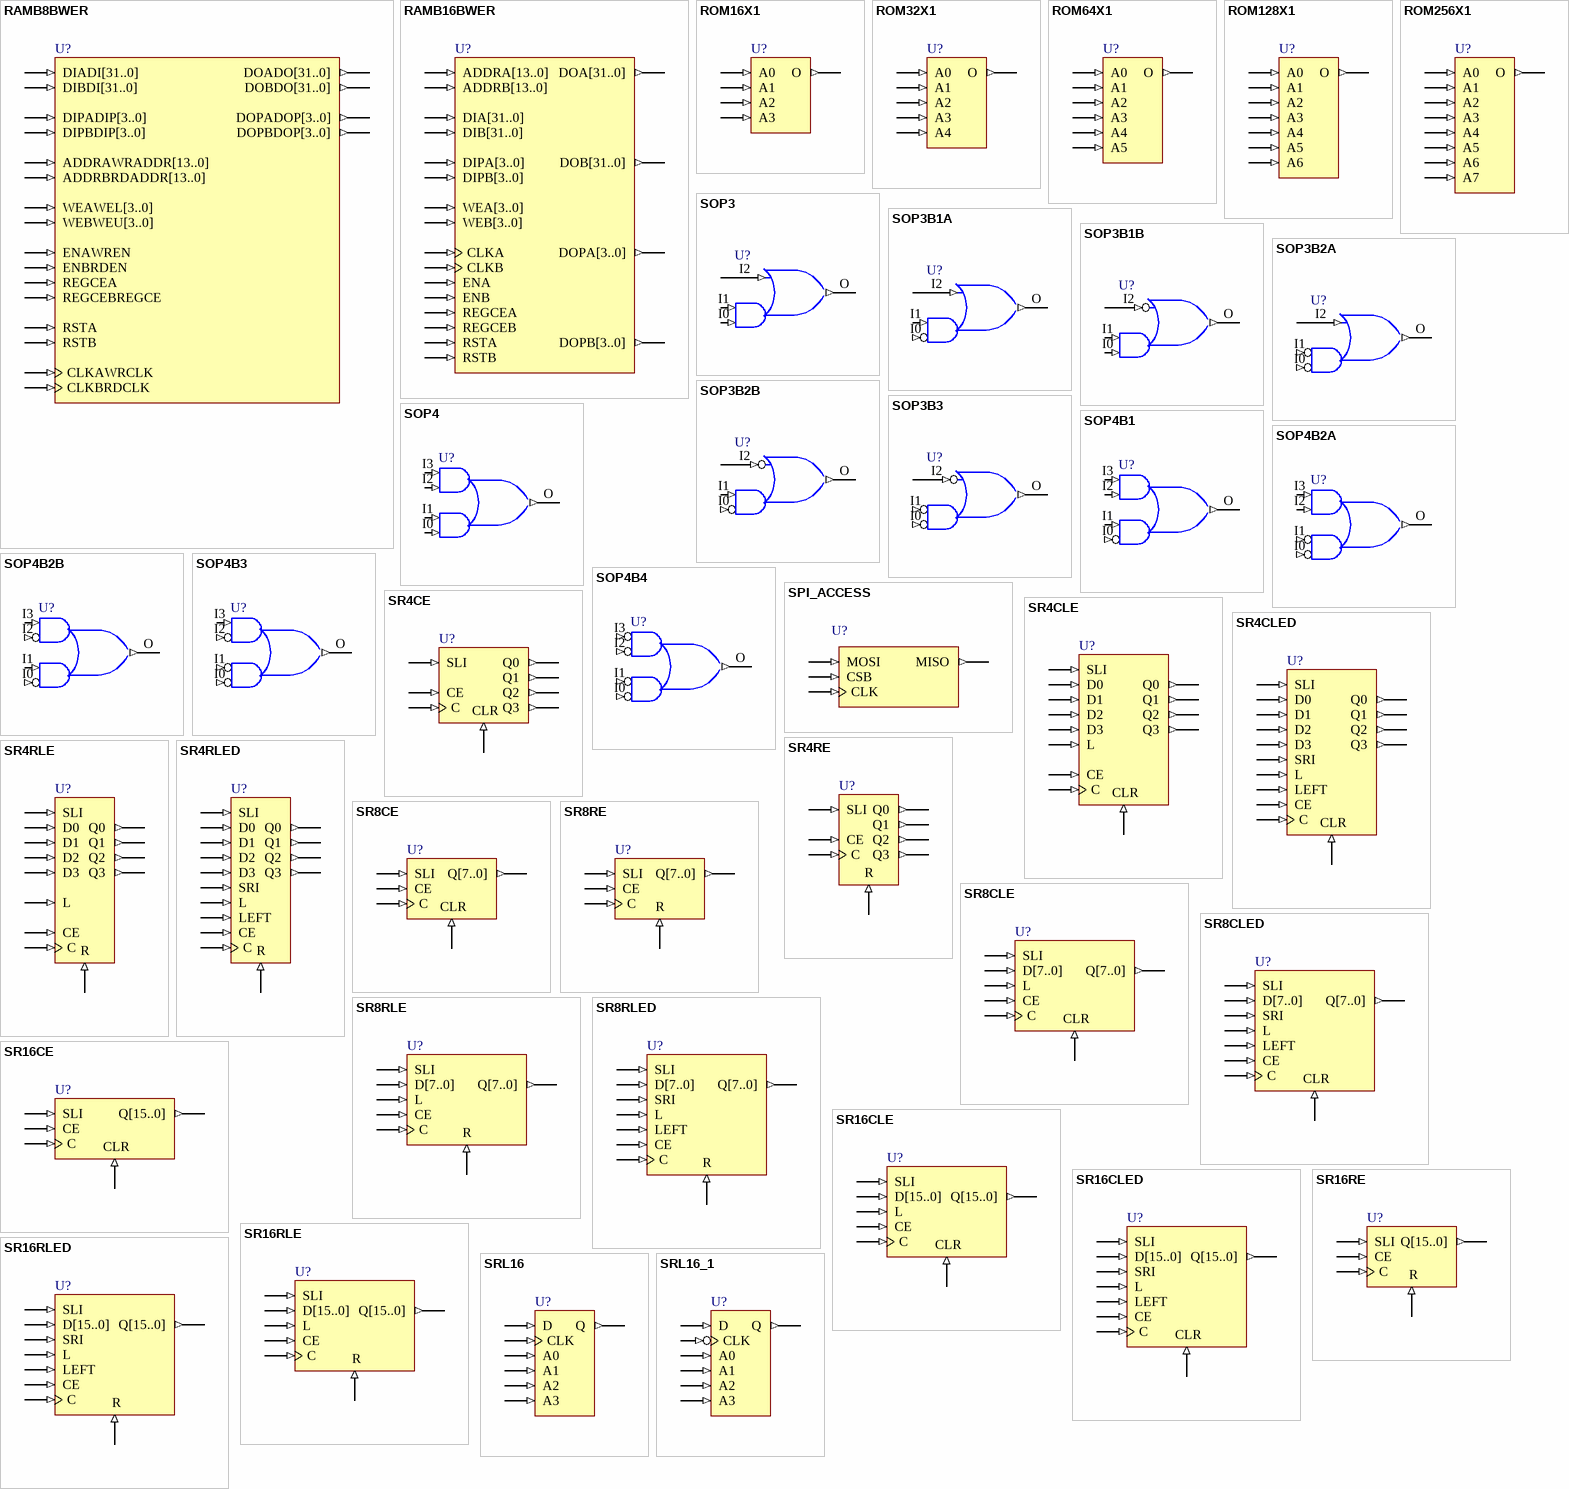
[diagram p11: symbols RAMB8BWER to SRL16_1]

## RAMB8BWER
designator U?
8K-bit Data and 1K-bit Parity Configurable Synchronous Dual Port Block RAM with Optional Output Registers; FPGAVendor: Xilinx; Published: 17-Dec-2009; Publisher: Altium Limited; HelpURL: http://www.xilinx.com/support/documentation/sw_manuals/xilinx11/spartan6_scm.pdf
pins: ADDRAWRADDR[13..0] (in), ADDRBRDADDR[13..0] (in), CLKAWRCLK (in), CLKBRDCLK (in), DIADI[31..0] (in), DIBDI[31..0] (in), DIPADIP[3..0] (in), DIPBDIP[3..0] (in), DOADO[31..0] (out), DOBDO[31..0] (out), DOPADOP[3..0] (out), DOPBDOP[3..0] (out), ENAWREN (in), ENBRDEN (in), REGCEA (in), REGCEBREGCE (in), RSTA (in), RSTB (in), WEAWEL[3..0] (in), WEBWEU[3..0] (in)

## RAMB16BWER
designator U?
16K-bit Data and 2K-bit Parity Configurable Synchronous Dual Port Block RAM with Optional Output Registers; FPGAVendor: Xilinx; Published: 17-Dec-2009; Publisher: Altium Limited; HelpURL: http://www.xilinx.com/support/documentation/sw_manuals/xilinx11/spartan6_scm.pdf
pins: ADDRA[13..0] (in), ADDRB[13..0] (in), CLKA (in), CLKB (in), DIA[31..0] (in), DIB[31..0] (in), DIPA[3..0] (in), DIPB[3..0] (in), DOA[31..0] (out), DOB[31..0] (out), DOPA[3..0] (out), DOPB[3..0] (out), ENA (in), ENB (in), REGCEA (in), REGCEB (in), RSTA (in), RSTB (in), WEA[3..0] (in), WEB[3..0] (in)

## ROM16X1
designator U?
16-Deep by 1-Wide ROM; FPGAVendor: Xilinx; Published: 17-Dec-2009; Publisher: Altium Limited; HelpURL: http://www.xilinx.com/support/documentation/sw_manuals/xilinx11/spartan6_scm.pdf
pins: A0 (in), A1 (in), A2 (in), A3 (in), O (out)

## ROM32X1
designator U?
32-Deep by 1-Wide ROM; FPGAVendor: Xilinx; Published: 17-Dec-2009; Publisher: Altium Limited; HelpURL: http://www.xilinx.com/support/documentation/sw_manuals/xilinx11/spartan6_scm.pdf
pins: A0 (in), A1 (in), A2 (in), A3 (in), A4 (in), O (out)

## ROM64X1
designator U?
64-Deep by 1-Wide ROM; FPGAVendor: Xilinx; Published: 17-Dec-2009; Publisher: Altium Limited; HelpURL: http://www.xilinx.com/support/documentation/sw_manuals/xilinx11/spartan6_scm.pdf
pins: A0 (in), A1 (in), A2 (in), A3 (in), A4 (in), A5 (in), O (out)

## ROM128X1
designator U?
128-Deep by 1-Wide ROM; FPGAVendor: Xilinx; Published: 17-Dec-2009; Publisher: Altium Limited; HelpURL: http://www.xilinx.com/support/documentation/sw_manuals/xilinx11/spartan6_scm.pdf
pins: A0 (in), A1 (in), A2 (in), A3 (in), A4 (in), A5 (in), A6 (in), O (out)

## ROM256X1
designator U?
256-Deep by 1-Wide ROM; FPGAVendor: Xilinx; Published: 17-Dec-2009; Publisher: Altium Limited; HelpURL: http://www.xilinx.com/support/documentation/sw_manuals/xilinx11/spartan6_scm.pdf
pins: A0 (in), A1 (in), A2 (in), A3 (in), A4 (in), A5 (in), A6 (in), A7 (in), O (out)

## SOP3
designator U?
3-Input Sum-of-Products; FPGAVendor: Xilinx; Published: 17-Dec-2009; Publisher: Altium Limited; HelpURL: http://www.xilinx.com/support/documentation/sw_manuals/xilinx11/spartan6_scm.pdf
pins: I0 (in), I1 (in), I2 (in), O (out)

## SOP3B1A
designator U?
3-Input Sum-of-Products with One AND Input Inverted; FPGAVendor: Xilinx; Published: 17-Dec-2009; Publisher: Altium Limited; HelpURL: http://www.xilinx.com/support/documentation/sw_manuals/xilinx11/spartan6_scm.pdf
pins: I0 (in), I1 (in), I2 (in), O (out)

## SOP3B1B
designator U?
3-Input Sum-of-Products with One OR Input Inverted; FPGAVendor: Xilinx; Published: 17-Dec-2009; Publisher: Altium Limited; HelpURL: http://www.xilinx.com/support/documentation/sw_manuals/xilinx11/spartan6_scm.pdf
pins: I0 (in), I1 (in), I2 (in), O (out)

## SOP3B2A
designator U?
3-Input Sum-of-Products with Two AND Inputs Inverted; FPGAVendor: Xilinx; Published: 17-Dec-2009; Publisher: Altium Limited; HelpURL: http://www.xilinx.com/support/documentation/sw_manuals/xilinx11/spartan6_scm.pdf
pins: I0 (in), I1 (in), I2 (in), O (out)

## SOP3B2B
designator U?
3-Input Sum-of-Products with One OR and One AND Input Inverted; FPGAVendor: Xilinx; Published: 17-Dec-2009; Publisher: Altium Limited; HelpURL: http://www.xilinx.com/support/documentation/sw_manuals/xilinx11/spartan6_scm.pdf
pins: I0 (in), I1 (in), I2 (in), O (out)

## SOP3B3
designator U?
3-Input Sum-of-Products with All Inputs Inverted; FPGAVendor: Xilinx; Published: 17-Dec-2009; Publisher: Altium Limited; HelpURL: http://www.xilinx.com/support/documentation/sw_manuals/xilinx11/spartan6_scm.pdf
pins: I0 (in), I1 (in), I2 (in), O (out)

## SOP4
designator U?
4-Input Sum-of-Products; FPGAVendor: Xilinx; Published: 17-Dec-2009; Publisher: Altium Limited; HelpURL: http://www.xilinx.com/support/documentation/sw_manuals/xilinx11/spartan6_scm.pdf
pins: I0 (in), I1 (in), I2 (in), I3 (in), O (out)

## SOP4B1
designator U?
4-Input Sum-of-Products with One AND Input Inverted; FPGAVendor: Xilinx; Published: 17-Dec-2009; Publisher: Altium Limited; HelpURL: http://www.xilinx.com/support/documentation/sw_manuals/xilinx11/spartan6_scm.pdf
pins: I0 (in), I1 (in), I2 (in), I3 (in), O (out)

## SOP4B2A
designator U?
4-Input Sum-of-Products with Both Inputs on One AND Gate Inverted; FPGAVendor: Xilinx; Published: 17-Dec-2009; Publisher: Altium Limited; HelpURL: http://www.xilinx.com/support/documentation/sw_manuals/xilinx11/spartan6_scm.pdf
pins: I0 (in), I1 (in), I2 (in), I3 (in), O (out)

## SOP4B2B
designator U?
4-Input Sum-of-Products with One AND Input on Each AND Gate Inverted; FPGAVendor: Xilinx; Published: 17-Dec-2009; Publisher: Altium Limited; HelpURL: http://www.xilinx.com/support/documentation/sw_manuals/xilinx11/spartan6_scm.pdf
pins: I0 (in), I1 (in), I2 (in), I3 (in), O (out)

## SOP4B3
designator U?
4-Input Sum-of-Products with Three Inputs Inverted; FPGAVendor: Xilinx; Published: 17-Dec-2009; Publisher: Altium Limited; HelpURL: http://www.xilinx.com/support/documentation/sw_manuals/xilinx11/spartan6_scm.pdf
pins: I0 (in), I1 (in), I2 (in), I3 (in), O (out)

## SOP4B4
designator U?
4-Input Sum-of-Products with All Inputs Inverted; FPGAVendor: Xilinx; Published: 17-Dec-2009; Publisher: Altium Limited; HelpURL: http://www.xilinx.com/support/documentation/sw_manuals/xilinx11/spartan6_scm.pdf
pins: I0 (in), I1 (in), I2 (in), I3 (in), O (out)

## SPI_ACCESS
designator U?
Internal Logic Access to the Serial Peripheral Interface (SPI) PROM Data; FPGAVendor: Xilinx; Published: 17-Dec-2009; Publisher: Altium Limited; HelpURL: http://www.xilinx.com/support/documentation/sw_manuals/xilinx11/spartan6_scm.pdf
pins: CLK (in), CSB (in), MISO (out), MOSI (in)

## SR4CE
designator U?
4-Bit Serial-In Parallel-Out Shift Register with Clock Enable and Asynchronous Clear; FPGAVendor: Xilinx; Published: 17-Dec-2009; Publisher: Altium Limited; HelpURL: http://www.xilinx.com/support/documentation/sw_manuals/xilinx11/spartan6_scm.pdf
pins: C (in), CE (in), CLR (in), Q0 (out), Q1 (out), Q2 (out), Q3 (out), SLI (in)

## SR4CLE
designator U?
4-Bit Loadable Serial/Parallel-In Parallel-Out Shift Register with Clock Enable and Asynchronous Clear; FPGAVendor: Xilinx; Published: 17-Dec-2009; Publisher: Altium Limited; HelpURL: http://www.xilinx.com/support/documentation/sw_manuals/xilinx11/spartan6_scm.pdf
pins: C (in), CE (in), CLR (in), D0 (in), D1 (in), D2 (in), D3 (in), L (in), Q0 (out), Q1 (out), Q2 (out), Q3 (out), SLI (in)

## SR4CLED
designator U?
4-Bit Shift Register with Clock Enable and Asynchronous Clear; FPGAVendor: Xilinx; Published: 17-Dec-2009; Publisher: Altium Limited; HelpURL: http://www.xilinx.com/support/documentation/sw_manuals/xilinx11/spartan6_scm.pdf
pins: C (in), CE (in), CLR (in), D0 (in), D1 (in), D2 (in), D3 (in), L (in), LEFT (in), Q0 (out), Q1 (out), Q2 (out), Q3 (out), SLI (in), SRI (in)

## SR4RE
designator U?
4-Bit Serial-In Parallel-Out Shift Register with Clock Enable and Synchronous Reset; FPGAVendor: Xilinx; Published: 17-Dec-2009; Publisher: Altium Limited; HelpURL: http://www.xilinx.com/support/documentation/sw_manuals/xilinx11/spartan6_scm.pdf
pins: C (in), CE (in), Q0 (out), Q1 (out), Q2 (out), Q3 (out), R (in), SLI (in)

## SR4RLE
designator U?
4-Bit Loadable Serial/Parallel-In Parallel-Out Shift Register with Clock Enable and Synchronous Reset; FPGAVendor: Xilinx; Published: 17-Dec-2009; Publisher: Altium Limited; HelpURL: http://www.xilinx.com/support/documentation/sw_manuals/xilinx11/spartan6_scm.pdf
pins: C (in), CE (in), D0 (in), D1 (in), D2 (in), D3 (in), L (in), Q0 (out), Q1 (out), Q2 (out), Q3 (out), R (in), SLI (in)

## SR4RLED
designator U?
4-Bit Shift Register with Clock Enable and Synchronous Reset; FPGAVendor: Xilinx; Published: 17-Dec-2009; Publisher: Altium Limited; HelpURL: http://www.xilinx.com/support/documentation/sw_manuals/xilinx11/spartan6_scm.pdf
pins: C (in), CE (in), D0 (in), D1 (in), D2 (in), D3 (in), L (in), LEFT (in), Q0 (out), Q1 (out), Q2 (out), Q3 (out), R (in), SLI (in), SRI (in)

## SR8CE
designator U?
8-Bit Serial-In Parallel-Out Shift Register with Clock Enable and Asynchronous Clear; FPGAVendor: Xilinx; Published: 17-Dec-2009; Publisher: Altium Limited; HelpURL: http://www.xilinx.com/support/documentation/sw_manuals/xilinx11/spartan6_scm.pdf
pins: C (in), CE (in), CLR (in), Q[7..0] (out), SLI (in)

## SR8CLE
designator U?
8-Bit Loadable Serial/Parallel-In Parallel-Out Shift Register with Clock Enable and Asynchronous Clear; FPGAVendor: Xilinx; Published: 17-Dec-2009; Publisher: Altium Limited; HelpURL: http://www.xilinx.com/support/documentation/sw_manuals/xilinx11/spartan6_scm.pdf
pins: C (in), CE (in), CLR (in), D[7..0] (in), L (in), Q[7..0] (out), SLI (in)

## SR8CLED
designator U?
8-Bit Shift Register with Clock Enable and Asynchronous Clear; FPGAVendor: Xilinx; Published: 17-Dec-2009; Publisher: Altium Limited; HelpURL: http://www.xilinx.com/support/documentation/sw_manuals/xilinx11/spartan6_scm.pdf
pins: C (in), CE (in), CLR (in), D[7..0] (in), L (in), LEFT (in), Q[7..0] (out), SLI (in), SRI (in)

## SR8RE
designator U?
8-Bit Serial-In Parallel-Out Shift Register with Clock Enable and Synchronous Reset; FPGAVendor: Xilinx; Published: 17-Dec-2009; Publisher: Altium Limited; HelpURL: http://www.xilinx.com/support/documentation/sw_manuals/xilinx11/spartan6_scm.pdf
pins: C (in), CE (in), Q[7..0] (out), R (in), SLI (in)

## SR8RLE
designator U?
8-Bit Loadable Serial/Parallel-In Parallel-Out Shift Register with Clock Enable and Synchronous Reset; FPGAVendor: Xilinx; Published: 17-Dec-2009; Publisher: Altium Limited; HelpURL: http://www.xilinx.com/support/documentation/sw_manuals/xilinx11/spartan6_scm.pdf
pins: C (in), CE (in), D[7..0] (in), L (in), Q[7..0] (out), R (in), SLI (in)

## SR8RLED
designator U?
8-Bit Shift Register with Clock Enable and Synchronous Reset; FPGAVendor: Xilinx; Published: 17-Dec-2009; Publisher: Altium Limited; HelpURL: http://www.xilinx.com/support/documentation/sw_manuals/xilinx11/spartan6_scm.pdf
pins: C (in), CE (in), D[7..0] (in), L (in), LEFT (in), Q[7..0] (out), R (in), SLI (in), SRI (in)

## SR16CE
designator U?
16-Bit Serial-In Parallel-Out Shift Register with Clock Enable and Asynchronous Clear; FPGAVendor: Xilinx; Published: 17-Dec-2009; Publisher: Altium Limited; HelpURL: http://www.xilinx.com/support/documentation/sw_manuals/xilinx11/spartan6_scm.pdf
pins: C (in), CE (in), CLR (in), Q[15..0] (out), SLI (in)

## SR16CLE
designator U?
16-Bit Loadable Serial/Parallel-In Parallel-Out Shift Register with Clock Enable and Asynchronous Clear; FPGAVendor: Xilinx; Published: 17-Dec-2009; Publisher: Altium Limited; HelpURL: http://www.xilinx.com/support/documentation/sw_manuals/xilinx11/spartan6_scm.pdf
pins: C (in), CE (in), CLR (in), D[15..0] (in), L (in), Q[15..0] (out), SLI (in)

## SR16CLED
designator U?
16-Bit Shift Register with Clock Enable and Asynchronous Clear; FPGAVendor: Xilinx; Published: 17-Dec-2009; Publisher: Altium Limited; HelpURL: http://www.xilinx.com/support/documentation/sw_manuals/xilinx11/spartan6_scm.pdf
pins: C (in), CE (in), CLR (in), D[15..0] (in), L (in), LEFT (in), Q[15..0] (out), SLI (in), SRI (in)

## SR16RE
designator U?
16-Bit Serial-In Parallel-Out Shift Register with Clock Enable and Synchronous Reset; FPGAVendor: Xilinx; Published: 17-Dec-2009; Publisher: Altium Limited; HelpURL: http://www.xilinx.com/support/documentation/sw_manuals/xilinx11/spartan6_scm.pdf
pins: C (in), CE (in), Q[15..0] (out), R (in), SLI (in)

## SR16RLE
designator U?
16-Bit Loadable Serial/Parallel-In Parallel-Out Shift Register with Clock Enable and Synchronous Reset; FPGAVendor: Xilinx; Published: 17-Dec-2009; Publisher: Altium Limited; HelpURL: http://www.xilinx.com/support/documentation/sw_manuals/xilinx11/spartan6_scm.pdf
pins: C (in), CE (in), D[15..0] (in), L (in), Q[15..0] (out), R (in), SLI (in)

## SR16RLED
designator U?
16-Bit Shift Register with Clock Enable and Synchronous Reset; FPGAVendor: Xilinx; Published: 17-Dec-2009; Publisher: Altium Limited; HelpURL: http://www.xilinx.com/support/documentation/sw_manuals/xilinx11/spartan6_scm.pdf
pins: C (in), CE (in), D[15..0] (in), L (in), LEFT (in), Q[15..0] (out), R (in), SLI (in), SRI (in)

## SRL16
designator U?
16-Bit Shift Register Look-Up-Table (LUT); FPGAVendor: Xilinx; Published: 17-Dec-2009; Publisher: Altium Limited; HelpURL: http://www.xilinx.com/support/documentation/sw_manuals/xilinx11/spartan6_scm.pdf
pins: A0 (in), A1 (in), A2 (in), A3 (in), CLK (in), D (in), Q (out)

## SRL16_1
designator U?
16-Bit Shift Register Look-Up-Table (LUT) with Negative-Clock Edge; FPGAVendor: Xilinx; Published: 17-Dec-2009; Publisher: Altium Limited; HelpURL: http://www.xilinx.com/support/documentation/sw_manuals/xilinx11/spartan6_scm.pdf
pins: A0 (in), A1 (in), A2 (in), A3 (in), CLK (in), D (in), Q (out)

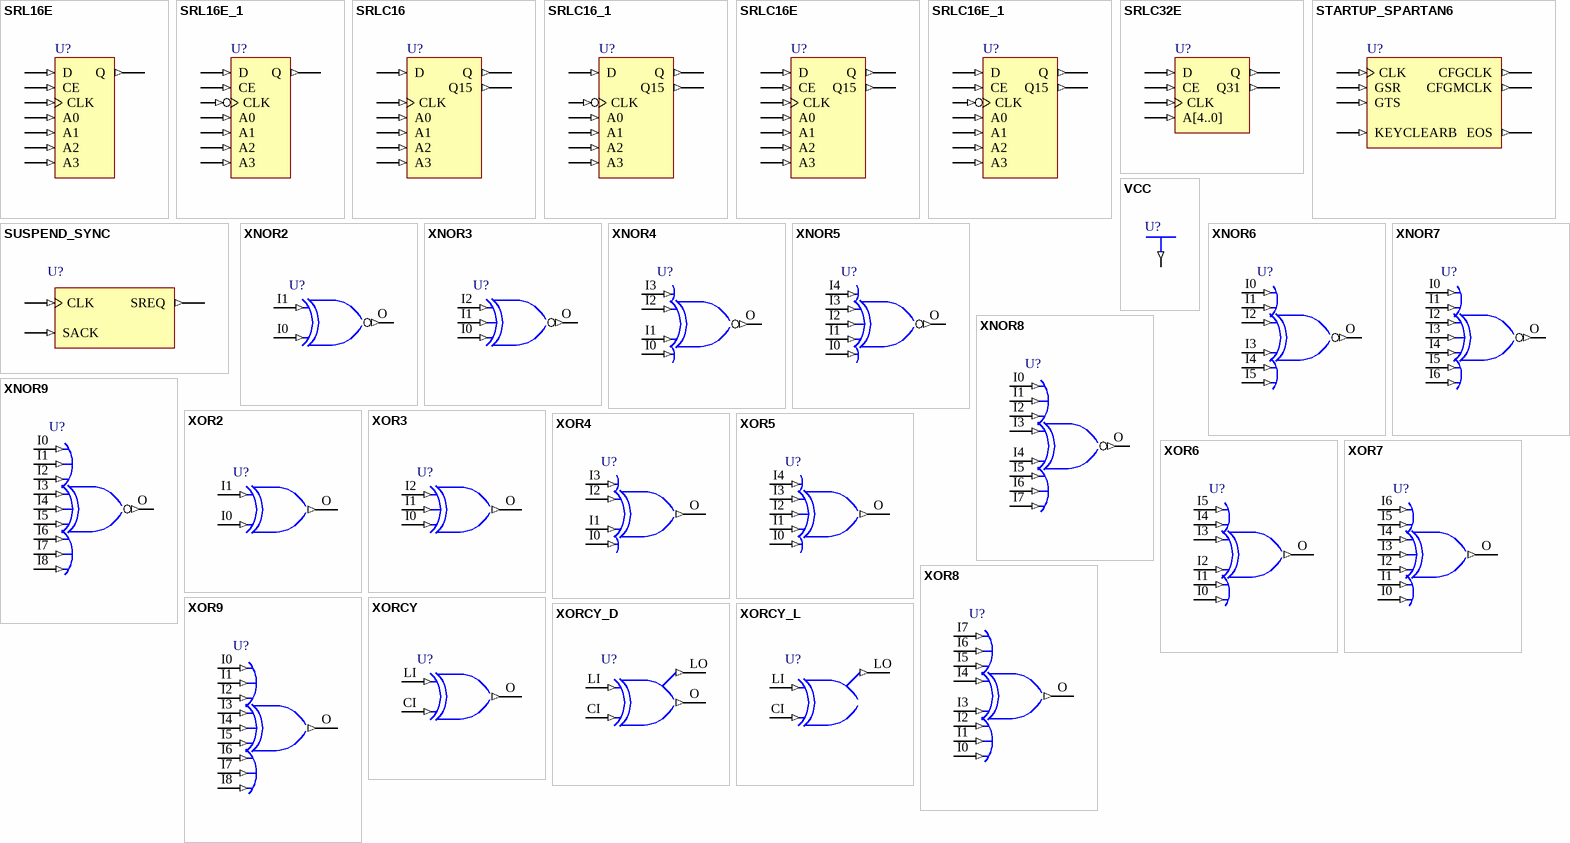
[diagram p12: symbols SRL16E to XORCY_L]

## SRL16E
designator U?
16-Bit Shift Register Look-Up-Table (LUT) with Clock Enable; FPGAVendor: Xilinx; Published: 17-Dec-2009; Publisher: Altium Limited; HelpURL: http://www.xilinx.com/support/documentation/sw_manuals/xilinx11/spartan6_scm.pdf
pins: A0 (in), A1 (in), A2 (in), A3 (in), CE (in), CLK (in), D (in), Q (out)

## SRL16E_1
designator U?
16-Bit Shift Register Look-Up-Table (LUT) with Negative-Edge Clock and Clock Enable; FPGAVendor: Xilinx; Published: 17-Dec-2009; Publisher: Altium Limited; HelpURL: http://www.xilinx.com/support/documentation/sw_manuals/xilinx11/spartan6_scm.pdf
pins: A0 (in), A1 (in), A2 (in), A3 (in), CE (in), CLK (in), D (in), Q (out)

## SRLC16
designator U?
16-Bit Shift Register Look-Up-Table (LUT) with Carry; FPGAVendor: Xilinx; Published: 17-Dec-2009; Publisher: Altium Limited; HelpURL: http://www.xilinx.com/support/documentation/sw_manuals/xilinx11/spartan6_scm.pdf
pins: A0 (in), A1 (in), A2 (in), A3 (in), CLK (in), D (in), Q (out), Q15 (out)

## SRLC16_1
designator U?
16-Bit Shift Register Look-Up-Table (LUT) with Carry and Negative-Edge Clock; FPGAVendor: Xilinx; Published: 17-Dec-2009; Publisher: Altium Limited; HelpURL: http://www.xilinx.com/support/documentation/sw_manuals/xilinx11/spartan6_scm.pdf
pins: A0 (in), A1 (in), A2 (in), A3 (in), CLK (in), D (in), Q (out), Q15 (out)

## SRLC16E
designator U?
16-Bit Shift Register Look-Up-Table (LUT) with Carry and Clock Enable; FPGAVendor: Xilinx; Published: 17-Dec-2009; Publisher: Altium Limited; HelpURL: http://www.xilinx.com/support/documentation/sw_manuals/xilinx11/spartan6_scm.pdf
pins: A0 (in), A1 (in), A2 (in), A3 (in), CE (in), CLK (in), D (in), Q (out), Q15 (out)

## SRLC16E_1
designator U?
16-Bit Shift Register Look-Up-Table (LUT) with Carry, Negative-Edge Clock, and Clock Enable; FPGAVendor: Xilinx; Published: 17-Dec-2009; Publisher: Altium Limited; HelpURL: http://www.xilinx.com/support/documentation/sw_manuals/xilinx11/spartan6_scm.pdf
pins: A0 (in), A1 (in), A2 (in), A3 (in), CE (in), CLK (in), D (in), Q (out), Q15 (out)

## SRLC32E
designator U?
32 Clock Cycle, Variable Length Shift Register Look-Up Table (LUT) with Clock Enable; FPGAVendor: Xilinx; Published: 17-Dec-2009; Publisher: Altium Limited; HelpURL: http://www.xilinx.com/support/documentation/sw_manuals/xilinx11/spartan6_scm.pdf
pins: A[4..0] (in), CE (in), CLK (in), D (in), Q (out), Q31 (out)

## STARTUP_SPARTAN6
designator U?
Spartan®-6 Global Set/Reset, Global 3-State and Configuration Start-Up Clock Interface; FPGAVendor: Xilinx; Published: 17-Dec-2009; Publisher: Altium Limited; HelpURL: http://www.xilinx.com/support/documentation/sw_manuals/xilinx11/spartan6_scm.pdf
pins: CFGCLK (out), CFGMCLK (out), CLK (in), EOS (out), GSR (in), GTS (in), KEYCLEARB (in)

## SUSPEND_SYNC
designator U?
Suspend Mode Access; FPGAVendor: Xilinx; Published: 17-Dec-2009; Publisher: Altium Limited; HelpURL: http://www.xilinx.com/support/documentation/sw_manuals/xilinx11/spartan6_scm.pdf
pins: CLK (in), SACK (in), SREQ (out)

## VCC
designator U?
VCC-Connection Signal Tag; FPGAVendor: Xilinx; Published: 17-Dec-2009; Publisher: Altium Limited; HelpURL: http://www.xilinx.com/support/documentation/sw_manuals/xilinx11/spartan6_scm.pdf
pins: P (out)

## XNOR2
designator U?
2-Input XNOR Gate; FPGAVendor: Xilinx; Published: 17-Dec-2009; Publisher: Altium Limited; HelpURL: http://www.xilinx.com/support/documentation/sw_manuals/xilinx11/spartan6_scm.pdf
pins: I0 (in), I1 (in), O (out)

## XNOR3
designator U?
3-Input XNOR Gate; FPGAVendor: Xilinx; Published: 17-Dec-2009; Publisher: Altium Limited; HelpURL: http://www.xilinx.com/support/documentation/sw_manuals/xilinx11/spartan6_scm.pdf
pins: I0 (in), I1 (in), I2 (in), O (out)

## XNOR4
designator U?
4-Input XNOR Gate; FPGAVendor: Xilinx; Published: 17-Dec-2009; Publisher: Altium Limited; HelpURL: http://www.xilinx.com/support/documentation/sw_manuals/xilinx11/spartan6_scm.pdf
pins: I0 (in), I1 (in), I2 (in), I3 (in), O (out)

## XNOR5
designator U?
5-Input XNOR Gate; FPGAVendor: Xilinx; Published: 17-Dec-2009; Publisher: Altium Limited; HelpURL: http://www.xilinx.com/support/documentation/sw_manuals/xilinx11/spartan6_scm.pdf
pins: I0 (in), I1 (in), I2 (in), I3 (in), I4 (in), O (out)

## XNOR6
designator U?
6-Input XNOR Gate; FPGAVendor: Xilinx; Published: 17-Dec-2009; Publisher: Altium Limited; HelpURL: http://www.xilinx.com/support/documentation/sw_manuals/xilinx11/spartan6_scm.pdf
pins: I0 (in), I1 (in), I2 (in), I3 (in), I4 (in), I5 (in), O (out)

## XNOR7
designator U?
7-Input XNOR Gate; FPGAVendor: Xilinx; Published: 17-Dec-2009; Publisher: Altium Limited; HelpURL: http://www.xilinx.com/support/documentation/sw_manuals/xilinx11/spartan6_scm.pdf
pins: I0 (in), I1 (in), I2 (in), I3 (in), I4 (in), I5 (in), I6 (in), O (out)

## XNOR8
designator U?
8-Input XNOR Gate; FPGAVendor: Xilinx; Published: 17-Dec-2009; Publisher: Altium Limited; HelpURL: http://www.xilinx.com/support/documentation/sw_manuals/xilinx11/spartan6_scm.pdf
pins: I0 (in), I1 (in), I2 (in), I3 (in), I4 (in), I5 (in), I6 (in), I7 (in), O (out)

## XNOR9
designator U?
9-Input XNOR Gate; FPGAVendor: Xilinx; Published: 17-Dec-2009; Publisher: Altium Limited; HelpURL: http://www.xilinx.com/support/documentation/sw_manuals/xilinx11/spartan6_scm.pdf
pins: I0 (in), I1 (in), I2 (in), I3 (in), I4 (in), I5 (in), I6 (in), I7 (in), I8 (in), O (out)

## XOR2
designator U?
2-Input XOR Gate; FPGAVendor: Xilinx; Published: 17-Dec-2009; Publisher: Altium Limited; HelpURL: http://www.xilinx.com/support/documentation/sw_manuals/xilinx11/spartan6_scm.pdf
pins: I0 (in), I1 (in), O (out)

## XOR3
designator U?
3-Input XOR Gate; FPGAVendor: Xilinx; Published: 17-Dec-2009; Publisher: Altium Limited; HelpURL: http://www.xilinx.com/support/documentation/sw_manuals/xilinx11/spartan6_scm.pdf
pins: I0 (in), I1 (in), I2 (in), O (out)

## XOR4
designator U?
4-Input XOR Gate; FPGAVendor: Xilinx; Published: 17-Dec-2009; Publisher: Altium Limited; HelpURL: http://www.xilinx.com/support/documentation/sw_manuals/xilinx11/spartan6_scm.pdf
pins: I0 (in), I1 (in), I2 (in), I3 (in), O (out)

## XOR5
designator U?
5-Input XOR Gate; FPGAVendor: Xilinx; Published: 17-Dec-2009; Publisher: Altium Limited; HelpURL: http://www.xilinx.com/support/documentation/sw_manuals/xilinx11/spartan6_scm.pdf
pins: I0 (in), I1 (in), I2 (in), I3 (in), I4 (in), O (out)

## XOR6
designator U?
6-Input XOR Gate; FPGAVendor: Xilinx; Published: 17-Dec-2009; Publisher: Altium Limited; HelpURL: http://www.xilinx.com/support/documentation/sw_manuals/xilinx11/spartan6_scm.pdf
pins: I0 (in), I1 (in), I2 (in), I3 (in), I4 (in), I5 (in), O (out)

## XOR7
designator U?
7-Input XOR Gate; FPGAVendor: Xilinx; Published: 17-Dec-2009; Publisher: Altium Limited; HelpURL: http://www.xilinx.com/support/documentation/sw_manuals/xilinx11/spartan6_scm.pdf
pins: I0 (in), I1 (in), I2 (in), I3 (in), I4 (in), I5 (in), I6 (in), O (out)

## XOR8
designator U?
8-Input XOR Gate; FPGAVendor: Xilinx; Published: 17-Dec-2009; Publisher: Altium Limited; HelpURL: http://www.xilinx.com/support/documentation/sw_manuals/xilinx11/spartan6_scm.pdf
pins: I0 (in), I1 (in), I2 (in), I3 (in), I4 (in), I5 (in), I6 (in), I7 (in), O (out)

## XOR9
designator U?
9-Input XOR Gate; FPGAVendor: Xilinx; Published: 17-Dec-2009; Publisher: Altium Limited; HelpURL: http://www.xilinx.com/support/documentation/sw_manuals/xilinx11/spartan6_scm.pdf
pins: I0 (in), I1 (in), I2 (in), I3 (in), I4 (in), I5 (in), I6 (in), I7 (in), I8 (in), O (out)

## XORCY
designator U?
2-Input XOR Gate for Carry Logic with General Output; FPGAVendor: Xilinx; Published: 17-Dec-2009; Publisher: Altium Limited; HelpURL: http://www.xilinx.com/support/documentation/sw_manuals/xilinx11/spartan6_scm.pdf
pins: CI (in), LI (in), O (out)

## XORCY_D
designator U?
2-Input XOR Gate for Carry Logic with Dual Output; FPGAVendor: Xilinx; Published: 17-Dec-2009; Publisher: Altium Limited; HelpURL: http://www.xilinx.com/support/documentation/sw_manuals/xilinx11/spartan6_scm.pdf
pins: CI (in), LI (in), LO (out), O (out)

## XORCY_L
designator U?
2-Input XOR Gate for Carry Logic with Local Output; FPGAVendor: Xilinx; Published: 17-Dec-2009; Publisher: Altium Limited; HelpURL: http://www.xilinx.com/support/documentation/sw_manuals/xilinx11/spartan6_scm.pdf
pins: CI (in), LI (in), LO (out)